# Altium footprint library DIODES PTH.PcbLib: 160 footprints (part 10 of 10)
Each footprint in its own frame and in the unit in brackets; x right, y up, seen from the top. Pads: shape width x height; smd on the part's side, far side on the other; paste and mask are expansions set on the pad; w line width, h text height; cw(c..) or ccw(c..) is an arc to the next point about the centre after c.
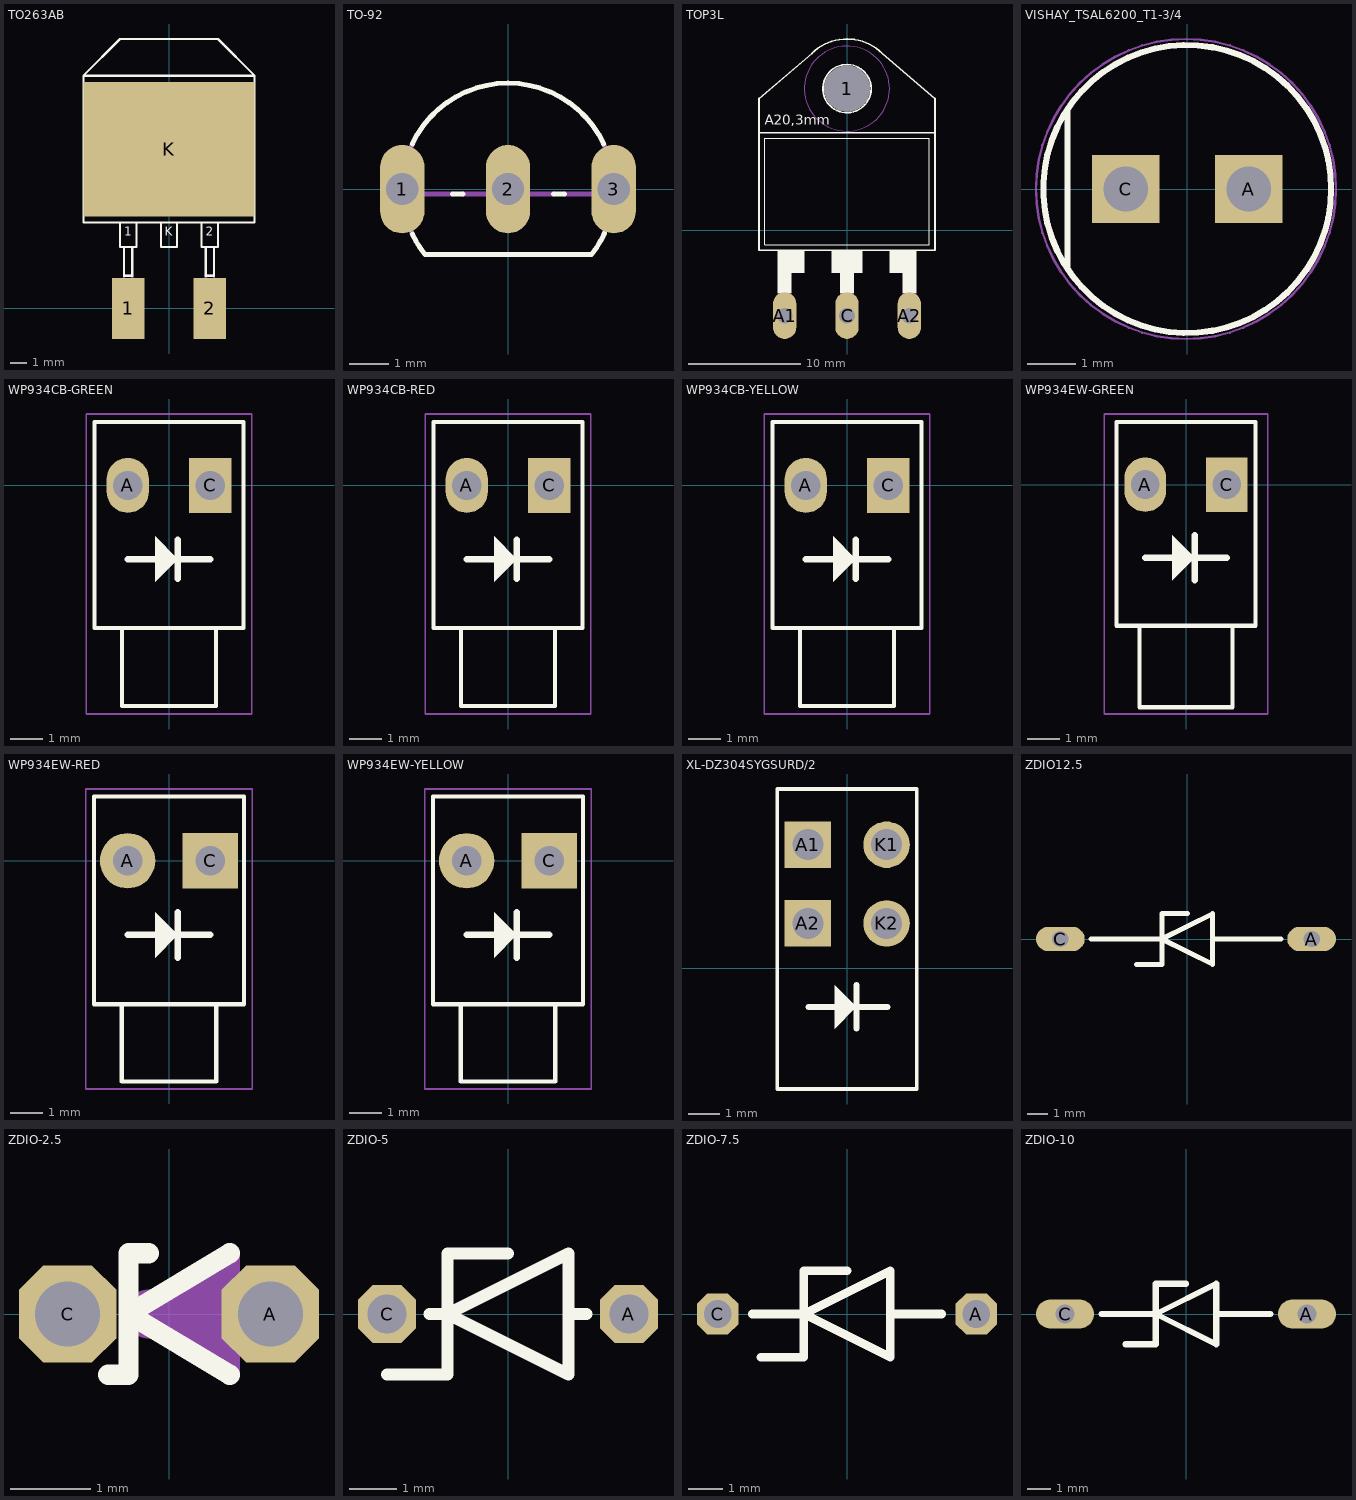
[diagram p9: the footprints below, top view; thin cyan lines are the x and y axes]

## TO263AB [mil]
pads (3):
  rect 80x150 smd: 1(-100,0) 2(100,0)
  rect 420x330 smd: K(0,390)
Top Overlay:
  lines w5: -210,570 210,570 ; -210,570 -210,210 -120,210 ; -210,570 -120,660 120,660 210,570 ; -120,210 -80,210 ; -120,210 -120,150 -110,150 ; -110,150 -90,150 ; -110,150 -110,80 -90,80 -90,150 ; -90,150 -80,150 -80,210 ; -80,210 -20,210 ; -20,210 20,210 ; -20,210 -20,150 20,150 20,210 ; 20,210 80,210 ; 80,210 120,210 ; 80,210 80,150 90,150 ; 90,150 110,150 ; 90,150 90,80 110,80 110,150 ; 110,150 120,150 120,210 ; 120,210 210,210 210,570
  text "1" at -110,170 h37.2
  text "K" at -10,170 h37.2
  text "2" at 90,170 h37.2
Mechanical 16:
  lines w5: -190,230 190,230 190,550 -190,550 -190,230 ; -110,30 -110,80 -90,80 -90,30 -110,30 ; 90,30 90,80 110,80 110,30 90,30

## TO-92 [mil]
pads (3):
  oval 44x88 hole 32: 1(-105,0) 2(0,0) 3(105,0)
Top Overlay:
  lines w5: -95.02,-44.72 ccw(c-0.02,0) -82.48,-65 83,-65 ccw(c0.55,0.09) 96,-43.77 ; -95,45 cw(c0,0.28) 95,45 ; -55.28,-5 -44.72,-5 ; 45,-5 56,-5
Mechanical 16:
  lines w5: -104.88,-5 -55.28,-5 ; -95,-44.72 cw(c0.3,0.14) -95,45 ; -44.72,-5 45,-5 ; 56,-5 105,-5 ; 95,-44.72 ccw(c-0.3,0.14) 95,45

## TOP3L [mil]
pads (4):
  round 162 hole 162: 1(0,500)
  oval 82.5x165 hole 55: A1(-220,-300) A2(220,-300) C(0,-300)
Top Overlay:
  circle w6: c0,500 r85
  rectangle: -245,-150 -150,-70
  rectangle: -55,-150 55,-70
  rectangle: 150,-150 245,-70
  rectangle: 195,-220 245,-150
  rectangle: -25,-220 25,-150
  rectangle: -245,-220 -195,-150
  lines w2: -290,-50 290,-50 290,325 -290,325 -290,-50
  lines w6: -123.74,624 cw(c-0.31,500.13) 0,675 cw(c0.44,499.82) 124,624 ; -123,624 -310,465 -310,345 ; 123,625 310,465 310,345 ; -310,345 -310,-70 310,-70 310,345 ; -310,345 310,345
  text "A20,3mm" at -290,360 h60.45
Mechanical 9:
  circle w0: c0,500 r150
Mechanical 10:
  circle w0: c0,500 r150
Mechanical 16:
  rectangle: -245,-295 -195,-220
  rectangle: -25,-295 25,-220
  rectangle: 195,-295 245,-220

## VISHAY_TSAL6200_T1-3/4 [mm] "Radial, 5mm Dia (T 1 3/4)"
pads (2):
  rect 1.4x1.4 hole 0.92: A(1.27,0) C(-1.27,0)
Top Overlay:
  circle w0.127: c0,0 r2.975
  lines w0.127: -2.475,-1.65 -2.475,1.65
Mechanical 1:
  circle w0.1: c0,0 r2.975
Mechanical 15:
  circle w0.05: c-0.025,0 r3.1
3D body "TSAL6200.step": height 9.02, standoff -25.28, extent -2.5,-2.897 2.9,2.897

## WP934CB-GREEN [mm]
pads (2):
  oval 1.3x1.7 hole 0.9: A(-1.27,0)
  rect 1.3x1.7 hole 0.9: C(1.27,0)
Top Overlay:
  region: 0.275,-2.275 -0.425,-1.575 -0.425,-2.975
  lines w0.127: -1.45,-4.4 -1.45,-6.8 1.45,-6.8 1.45,-4.4 ; -2.3,-4.4 -2.3,1.95 2.3,1.95 2.3,-4.4 -2.3,-4.4
  lines w0.2: -1.27,-2.275 -0.425,-2.275 ; -0.025,-2.275 1.27,-2.275 ; 0.275,-2.875 0.275,-2.275 0.275,-1.675
Mechanical 15:
  lines w0.05: -2.55,-7.05 -2.55,2.2 2.55,2.2 2.55,-7.05 -2.55,-7.05
3D body "934CB (1).STEP": height 7.35, standoff -3.45, extent -2.3,-6.8 2.3,1.95

## WP934CB-RED [mm]
pads (2):
  oval 1.3x1.7 hole 0.9: A(-1.27,0)
  rect 1.3x1.7 hole 0.9: C(1.27,0)
Top Overlay:
  region: 0.275,-2.275 -0.425,-1.575 -0.425,-2.975
  lines w0.127: -1.45,-4.4 -1.45,-6.8 1.45,-6.8 1.45,-4.4 ; -2.3,-4.4 -2.3,1.95 2.3,1.95 2.3,-4.4 -2.3,-4.4
  lines w0.2: -1.27,-2.275 -0.425,-2.275 ; -0.025,-2.275 1.27,-2.275 ; 0.275,-2.875 0.275,-2.275 0.275,-1.675
Mechanical 15:
  lines w0.05: -2.55,-7.05 -2.55,2.2 2.55,2.2 2.55,-7.05 -2.55,-7.05
3D body "User Library-WP934CB-Red.STEP": height 7.35, standoff -3.45, extent -2.3,-6.789 2.3,1.95

## WP934CB-YELLOW [mm]
pads (2):
  oval 1.3x1.7 hole 0.9: A(-1.27,0)
  rect 1.3x1.7 hole 0.9: C(1.27,0)
Top Overlay:
  region: 0.275,-2.275 -0.425,-1.575 -0.425,-2.975
  lines w0.127: -1.45,-4.4 -1.45,-6.8 1.45,-6.8 1.45,-4.4 ; -2.3,-4.4 -2.3,1.95 2.3,1.95 2.3,-4.4 -2.3,-4.4
  lines w0.2: -1.27,-2.275 -0.425,-2.275 ; -0.025,-2.275 1.27,-2.275 ; 0.275,-2.875 0.275,-2.275 0.275,-1.675
Mechanical 15:
  lines w0.05: -2.55,-7.05 -2.55,2.2 2.55,2.2 2.55,-7.05 -2.55,-7.05
3D body "User Library-WP934CB-Yellow.STEP": height 7.35, standoff -3.45, extent -2.3,-6.789 2.3,1.95

## WP934EW-GREEN [mm]
pads (2):
  oval 1.3x1.7 hole 0.9: A(-1.27,0)
  rect 1.3x1.7 hole 0.9: C(1.27,0)
Top Overlay:
  region: 0.275,-2.275 -0.425,-1.575 -0.425,-2.975
  lines w0.127: -1.45,-4.4 -1.45,-6.94 1.45,-6.94 1.45,-4.4 ; -2.16,-4.4 2.16,-4.4 2.16,1.95 -2.16,1.95 -2.16,-4.4
  lines w0.2: -1.27,-2.275 -0.425,-2.275 ; -0.025,-2.275 1.27,-2.275 ; 0.275,-2.975 0.275,-2.275 0.275,-1.575
Mechanical 15:
  lines w0.05: -2.55,-7.15 2.55,-7.15 2.55,2.2 -2.55,2.2 -2.55,-7.15
3D body "934EW-1.STEP": height 7.35, standoff -3.63, extent -2.16,-6.94 2.16,1.95

## WP934EW-RED [mm]
pads (2):
  round 1.7 hole 0.9: A(-1.27,0)
  rect 1.7x1.7 hole 0.9: C(1.27,0)
Top Overlay:
  region: 0.275,-2.275 -0.425,-1.575 -0.425,-2.975
  lines w0.127: -1.45,-4.4 -1.45,-6.775 1.45,-6.775 1.45,-4.4 ; -2.3,-4.4 2.3,-4.4 2.3,1.975 -2.3,1.975 -2.3,-4.4
  lines w0.2: -1.27,-2.275 -0.425,-2.275 ; -0.025,-2.275 1.27,-2.275 ; 0.275,-2.975 0.275,-2.275 0.275,-1.575
Mechanical 15:
  lines w0.05: -2.55,-7 2.55,-7 2.55,2.2 -2.55,2.2 -2.55,-7

## WP934EW-YELLOW [mm]
pads (2):
  round 1.7 hole 0.9: A(-1.27,0)
  rect 1.7x1.7 hole 0.9: C(1.27,0)
Top Overlay:
  region: 0.275,-2.275 -0.425,-1.575 -0.425,-2.975
  lines w0.127: -1.45,-4.4 -1.45,-6.775 1.45,-6.775 1.45,-4.4 ; -2.3,-4.4 2.3,-4.4 2.3,1.975 -2.3,1.975 -2.3,-4.4
  lines w0.2: -1.27,-2.275 -0.425,-2.275 ; -0.025,-2.275 1.27,-2.275 ; 0.275,-2.975 0.275,-2.275 0.275,-1.575
Mechanical 15:
  lines w0.05: -2.55,-7 2.55,-7 2.55,2.2 -2.55,2.2 -2.55,-7

## XL-DZ304SYGSURD/2 [mm] "LED RED, YELLOW GREEN TH"
pads (4):
  rect 1.5x1.5 hole 1: A1(-1.27,3.98) A2(-1.27,1.44)
  round 1.5 hole 1: K1(1.27,3.98) K2(1.27,1.44)
Top Overlay:
  region: 0.3,-1.25 -0.4,-0.55 -0.4,-1.95
  lines w0.127: -2.255,-3.9 -2.255,5.778 2.246,5.778 2.246,-3.9 -2.255,-3.9
  lines w0.2: -1.245,-1.25 -0.4,-1.25 ; 0,-1.25 1.295,-1.25 ; 0.3,-1.95 0.3,-1.25 0.3,-0.55
3D body "LED-TH_4P-L11.9-W4.3-P2.54_XL-DZ304SYGD-2.step": height 10.05, standoff -3.45, extent -2.255,-6.222 2.246,5.778

## ZDIO12.5 [mil]
pads (2):
  oval 96x48 hole 32: A(245,0) C(-250,0)
Top Overlay:
  lines w10: -190,0 -50,0 ; -100,-50 -50,-50 -50,0 ; 0,50 -50,50 -50,0 ; 185,0 50,0 ; -50,0 50,-50 50,0 ; -50,0 50,50 50,0

## ZDIO-2.5 [mil]
pads (2):
  oct 48x48 hole 32: A(50,0) C(-50,0)
Top Overlay:
  lines w10: -30,-30 -20,-30 -20,0 ; -10,30 -20,30 -20,0 ; 30,-30 -20,0 ; 30,30 -20,0
Mechanical 16:
  lines w10: 30,-30 30,30
  lines w24: -10,0 20,0 ; 20,-10 20,0 ; 20,10 20,0

## ZDIO-5 [mil]
pads (2):
  oct 48x48 hole 32: A(100,0) C(-100,0)
Top Overlay:
  lines w10: -100,-50 -50,-50 -50,0 ; -65,0 -50,0 ; 0,50 -50,50 -50,0 ; 65,0 50,0 ; -50,0 50,50 50,0 ; -50,0 50,-50 50,0

## ZDIO-7.5 [mil]
pads (2):
  oct 48x48 hole 32: A(150,0) C(-150,0)
Top Overlay:
  lines w10: -110,0 -50,0 ; -100,-50 -50,-50 -50,0 ; 0,50 -50,50 -50,0 ; 110,0 50,0 ; -50,0 50,-50 50,0 ; -50,0 50,50 50,0

## ZDIO-10 [mil]
pads (2):
  oval 96x48 hole 32: A(200,0) C(-200,0)
Top Overlay:
  lines w10: -140,0 -50,0 ; -100,-50 -50,-50 -50,0 ; 0,50 -50,50 -50,0 ; 140,0 50,0 ; -50,0 50,50 50,0 ; -50,0 50,-50 50,0